# Altium schematic symbol library Microchip.SchLib: 11 symbols
Pins are listed as number, name and electrical type; pins without a type are passive.

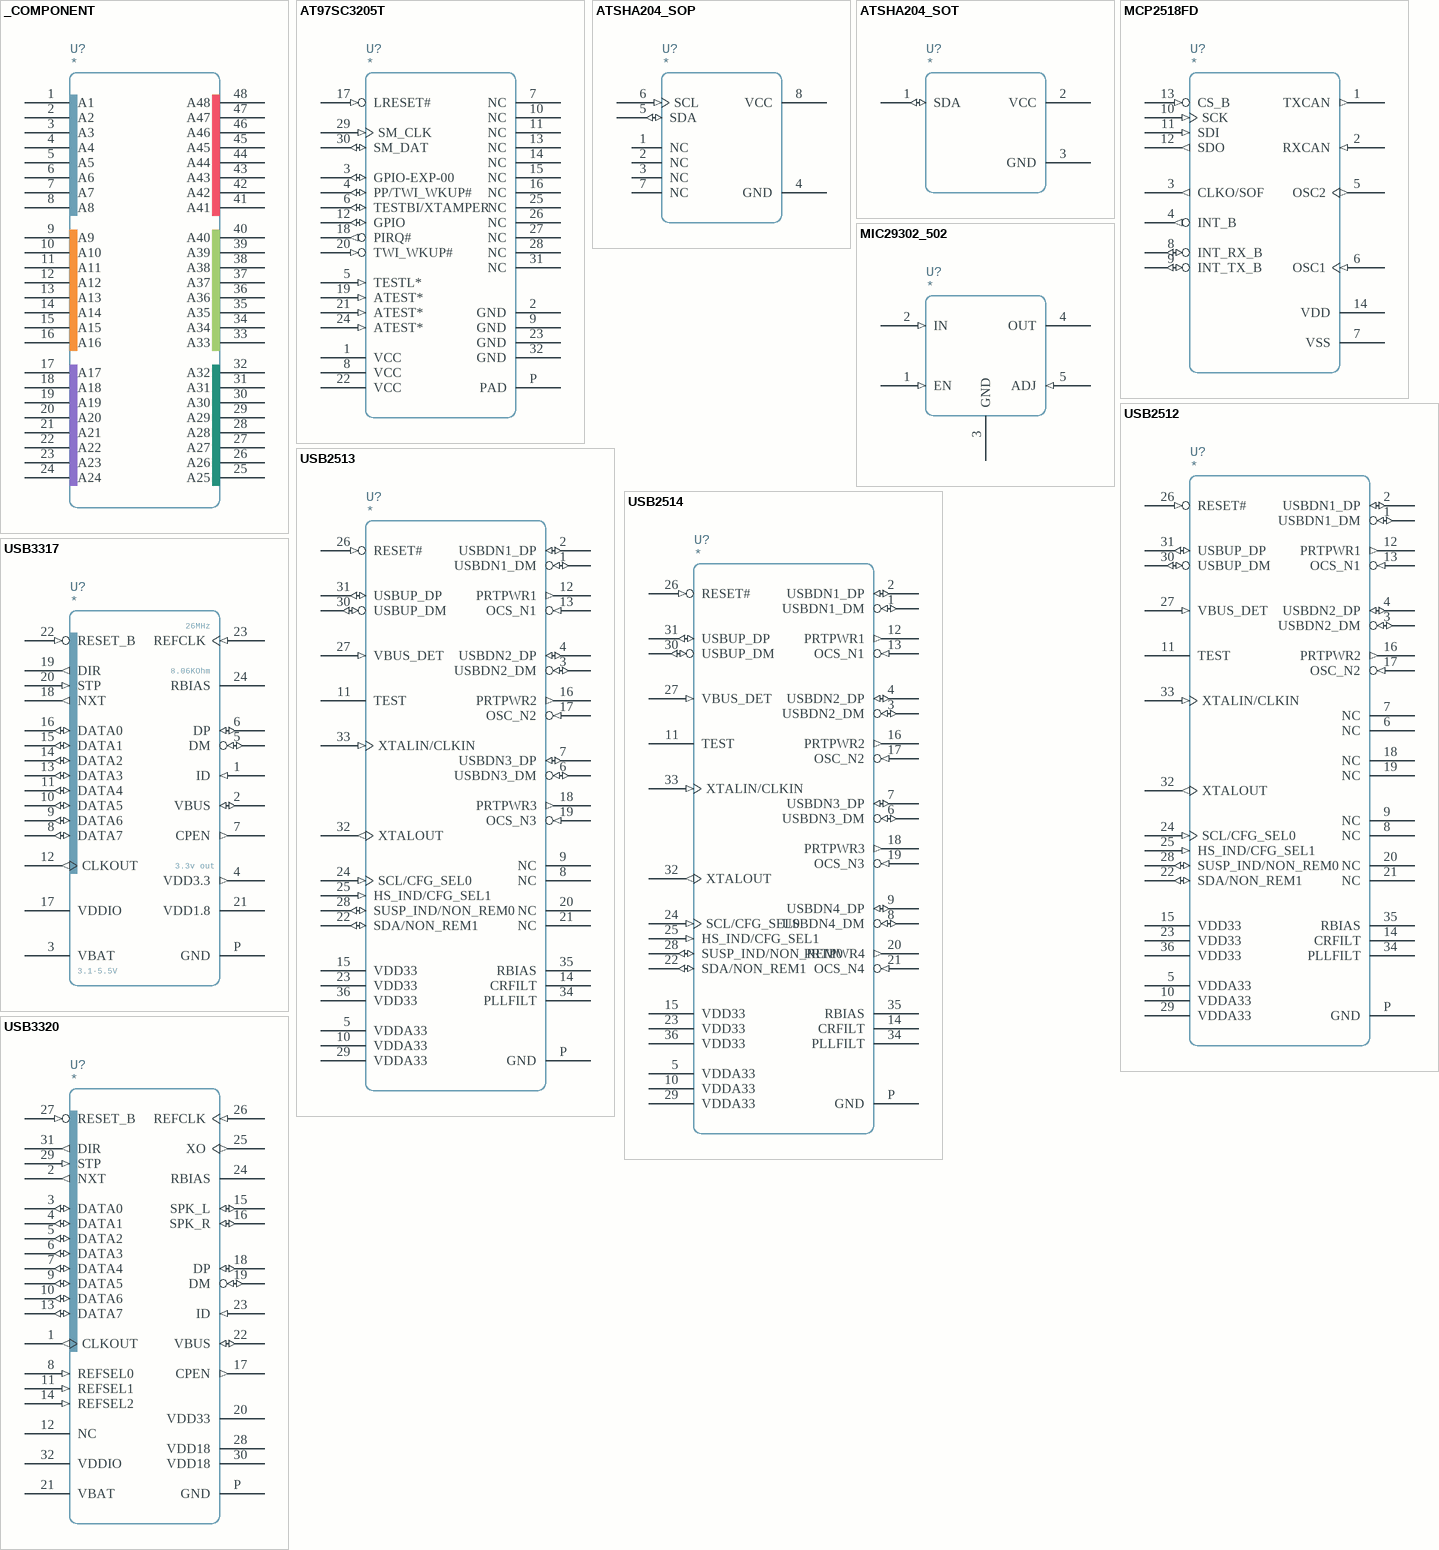
[diagram p0: symbols _COMPONENT to USB3320]

## _COMPONENT
designator U?
pins: 1 A1, 2 A2, 3 A3, 4 A4, 5 A5, 6 A6, 7 A7, 8 A8, 9 A9, 10 A10, 11 A11, 12 A12, 13 A13, 14 A14, 15 A15, 16 A16, 17 A17, 18 A18, 19 A19, 20 A20, 21 A21, 22 A22, 23 A23, 24 A24, 25 A25, 26 A26, 27 A27, 28 A28, 29 A29, 30 A30, 31 A31, 32 A32, 33 A33, 34 A34, 35 A35, 36 A36, 37 A37, 38 A38, 39 A39, 40 A40, 41 A41, 42 A42, 43 A43, 44 A44, 45 A45, 46 A46, 47 A47, 48 A48

## AT97SC3205T
designator U?
pins: 1 VCC, 2 GND, 3 GPIO-EXP-00 (io), 4 PP/TWI_WKUP# (io), 5 TESTL* (in), 6 TESTBI/XTAMPER (io), 7 NC, 8 VCC, 9 GND, 10 NC, 11 NC, 12 GPIO (io), 13 NC, 14 NC, 15 NC, 16 NC, 17 LRESET# (in), 18 PIRQ# (out), 19 ATEST* (in), 20 TWI_WKUP# (in), 21 ATEST* (in), 22 VCC, 23 GND, 24 ATEST* (in), 25 NC, 26 NC, 27 NC, 28 NC, 29 SM_CLK (in), 30 SM_DAT (io), 31 NC, 32 GND, P PAD

## ATSHA204_SOP
designator U?
pins: 1 NC, 2 NC, 3 NC, 4 GND (power), 5 SDA (io), 6 SCL (in), 7 NC, 8 VCC

## ATSHA204_SOT
designator U?
pins: 1 SDA (io), 2 VCC, 3 GND (power)

## MCP2518FD
designator U?
pins: 1 TXCAN (out), 2 RXCAN (in), 3 CLKO/SOF (out), 4 INT_B (out), 5 OSC2 (out), 6 OSC1 (in), 7 VSS, 8 INT_RX_B (io), 9 INT_TX_B (io), 10 SCK (in), 11 SDI (in), 12 SDO (out), 13 CS_B (in), 14 VDD

## MIC29302_502
designator U?
pins: 1 EN (in), 2 IN (in), 3 GND, 4 OUT, 5 ADJ (in)

## USB2512
designator U?
pins: 1 USBDN1_DM (io), 2 USBDN1_DP (io), 3 USBDN2_DM (io), 4 USBDN2_DP (io), 5 VDDA33, 6 NC, 7 NC, 8 NC, 9 NC, 10 VDDA33, 11 TEST, 12 PRTPWR1 (out), 13 OCS_N1 (in), 14 CRFILT, 15 VDD33, 16 PRTPWR2 (out), 17 OSC_N2 (in), 18 NC, 19 NC, 20 NC, 21 NC, 22 SDA/NON_REM1 (io), 23 VDD33, 24 SCL/CFG_SEL0 (in), 25 HS_IND/CFG_SEL1 (in), 26 RESET# (in), 27 VBUS_DET (in), 28 SUSP_IND/NON_REM0 (io), 29 VDDA33, 30 USBUP_DM (io), 31 USBUP_DP (io), 32 XTALOUT (out), 33 XTALIN/CLKIN (in), 34 PLLFILT, 35 RBIAS, 36 VDD33, P GND

## USB2513
designator U?
pins: 1 USBDN1_DM (io), 2 USBDN1_DP (io), 3 USBDN2_DM (io), 4 USBDN2_DP (io), 5 VDDA33, 6 USBDN3_DM (io), 7 USBDN3_DP (io), 8 NC, 9 NC, 10 VDDA33, 11 TEST, 12 PRTPWR1 (out), 13 OCS_N1 (in), 14 CRFILT, 15 VDD33, 16 PRTPWR2 (out), 17 OSC_N2 (in), 18 PRTPWR3 (out), 19 OCS_N3 (in), 20 NC, 21 NC, 22 SDA/NON_REM1 (io), 23 VDD33, 24 SCL/CFG_SEL0 (in), 25 HS_IND/CFG_SEL1 (in), 26 RESET# (in), 27 VBUS_DET (in), 28 SUSP_IND/NON_REM0 (io), 29 VDDA33, 30 USBUP_DM (io), 31 USBUP_DP (io), 32 XTALOUT (out), 33 XTALIN/CLKIN (in), 34 PLLFILT, 35 RBIAS, 36 VDD33, P GND

## USB2514
designator U?
pins: 1 USBDN1_DM (io), 2 USBDN1_DP (io), 3 USBDN2_DM (io), 4 USBDN2_DP (io), 5 VDDA33, 6 USBDN3_DM (io), 7 USBDN3_DP (io), 8 USBDN4_DM (io), 9 USBDN4_DP (io), 10 VDDA33, 11 TEST, 12 PRTPWR1 (out), 13 OCS_N1 (in), 14 CRFILT, 15 VDD33, 16 PRTPWR2 (out), 17 OSC_N2 (in), 18 PRTPWR3 (out), 19 OCS_N3 (in), 20 PRTPWR4 (out), 21 OCS_N4 (in), 22 SDA/NON_REM1 (io), 23 VDD33, 24 SCL/CFG_SEL0 (in), 25 HS_IND/CFG_SEL1 (in), 26 RESET# (in), 27 VBUS_DET (in), 28 SUSP_IND/NON_REM0 (io), 29 VDDA33, 30 USBUP_DM (io), 31 USBUP_DP (io), 32 XTALOUT (out), 33 XTALIN/CLKIN (in), 34 PLLFILT, 35 RBIAS, 36 VDD33, P GND

## USB3317
designator U?
pins: 1 ID (in), 2 VBUS (io), 3 VBAT, 4 VDD3.3 (out), 5 DM (io), 6 DP (io), 7 CPEN (out), 8 DATA7 (io), 9 DATA6 (io), 10 DATA5 (io), 11 DATA4 (io), 12 CLKOUT (out), 13 DATA3 (io), 14 DATA2 (io), 15 DATA1 (io), 16 DATA0 (io), 17 VDDIO, 18 NXT (out), 19 DIR (out), 20 STP (in), 21 VDD1.8, 22 RESET_B (in), 23 REFCLK (in), 24 RBIAS, P GND
text: 26MHz; 8.06KOhm; 3.3v out; 3.1-5.5V

## USB3320
designator U?
USB 2.0 ULPI Interface
pins: 1 CLKOUT (out) "ULPI Clock I/O", 2 NXT (out) "ULPI Data Throttle", 3 DATA0 (io) "ULPI Bi-Dir Data Bus", 4 DATA1 (io) "ULPI Bi-Dir Data Bus", 5 DATA2 (io) "ULPI Bi-Dir Data Bus", 6 DATA3 (io) "ULPI Bi-Dir Data Bus", 7 DATA4 (io) "ULPI Bi-Dir Data Bus", 8 REFSEL0 (in) "Hardware Configuration Pin", 9 DATA5 (io) "ULPI Bi-Dir Data Bus", 10 DATA6 (io) "ULPI Bi-Dir Data Bus", 11 REFSEL1 (in) "Hardware Configuration Pin", 12 NC, 13 DATA7 (io) "ULPI Bi-Dir Data Bus", 14 REFSEL2 (in) "Hardware Configuration Pin", 15 SPK_L (io), 16 SPK_R (io), 17 CPEN (out) "External 5V Power Supply Enable", 18 DP (io), 19 DM (io), 20 VDD33, 21 VBAT, 22 VBUS (io), 23 ID (in), 24 RBIAS, 25 XO (out), 26 REFCLK (in), 27 RESET_B (in), 28 VDD18, 29 STP (in) "ULPI Stop Data Stream", 30 VDD18, 31 DIR (out) "ULPI Bi-Dir Data Bus Direction", 32 VDDIO, P GND